# Altium footprint library CSS1210TB.PcbLib: 1 footprints
Each footprint in its own frame and in the unit in brackets; x right, y up, seen from the top. Pads: shape width x height; smd on the part's side, far side on the other; paste and mask are expansions set on the pad; w line width, h text height; cw(c..) or ccw(c..) is an arc to the next point about the centre after c.
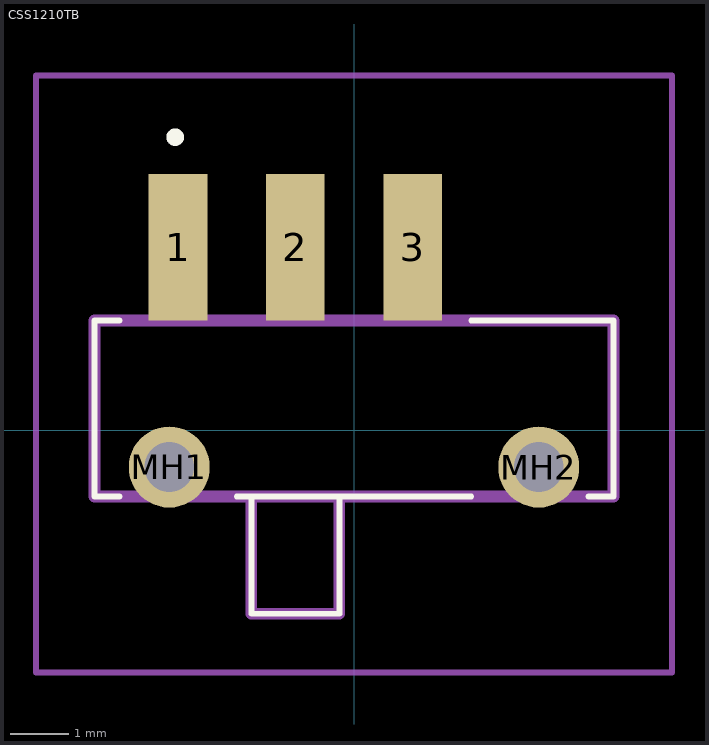
[diagram p0: the footprint, top view; thin cyan lines are the x and y axes]

## CSS1210TB [mm]
pads (5):
  rect 1x2.5 smd: 1(-3,3.125) 2(-1,3.125) 3(1,3.125)
  round 1.381 hole 0.85: MH1(-3.15,-0.625) MH2(3.15,-0.625)
Top Overlay:
  lines w0.1: -4,-1.125 -4.425,-1.125 -4.425,1.875 -4,1.875 ; -2,-1.125 2,-1.125 ; -1.75,-1.125 -1.75,-3.125 -0.25,-3.125 -0.25,-1.125 ; 2,1.875 4.425,1.875 4.425,-1.125 4,-1.125
  lines w0.2: -3.1,5 cw(c-3.05,5) -3,5 ; -3.1,5 -3.1,5 ; -3.1,5 ccw(c-3.05,5) -3,5 ; -3,5 -3,5
Mechanical 15:
  lines w0.2: -1.75,-1.125 -1.75,-3.125 -0.25,-3.125 -0.25,-1.125 ; -4.425,-1.125 4.425,-1.125 4.425,1.875 -4.425,1.875 -4.425,-1.125
Mechanical 20:
  lines w0.1: -5.425,-4.125 5.425,-4.125 5.425,6.05 -5.425,6.05 -5.425,-4.125